# Altium footprint library Connectors.PcbLib: 51 footprints (part 2 of 4)
Each footprint in its own frame and in the unit in brackets; x right, y up, seen from the top. Pads: shape width x height; smd on the part's side, far side on the other; paste and mask are expansions set on the pad; w line width, h text height; cw(c..) or ccw(c..) is an arc to the next point about the centre after c.
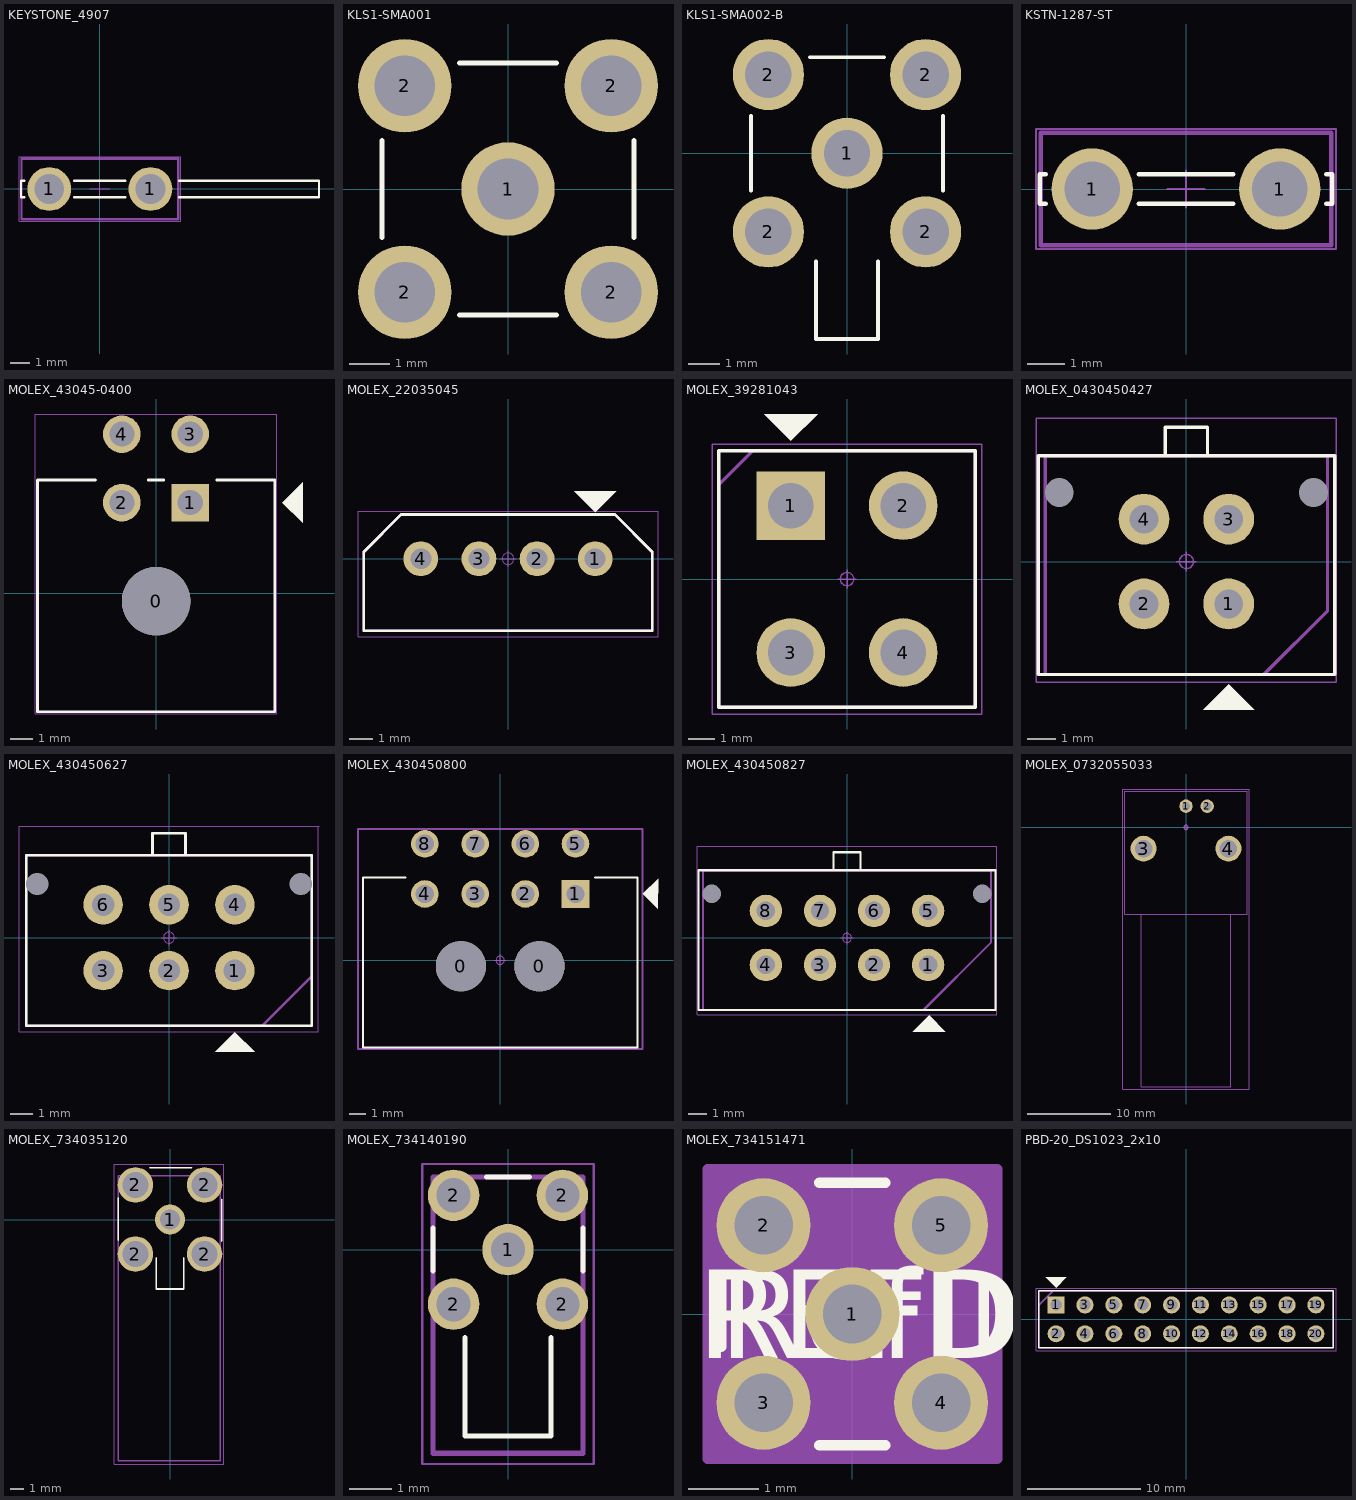
[diagram p1: the footprints below, top view; thin cyan lines are the x and y axes]

## KEYSTONE_4907 [mm] "0.187\" (4.75mm) Quick Connect Male - Solder Connector Non-Insulated"
pads (2):
  round 2.2 hole 1.5: 1(-2.54,0) 1(2.54,0)
Top Overlay:
  lines w0.12: -3.801,-0.405 -3.96,-0.405 -3.96,0.405 -3.801,0.405 ; -1.279,-0.405 1.279,-0.405 ; -1.279,0.405 1.279,0.405 ; 3.971,-0.405 10.841,-0.405 11,-0.405 11,0.405 10.841,0.405 3.971,0.405
Mechanical 11 (Mech11):
  lines w0.12: -3.937,-1.524 3.937,-1.524 3.937,1.524 -3.937,1.524 -3.937,-1.524
  text ".Designator" at -6.759,-0.678 h3
Mechanical 15 (Mech15):
  lines w0.05: -0.5,0 0.5,0 ; 0,-0.5 0,0.5 ; -4.06,-1.625 4.06,-1.625 4.06,1.625 -4.06,1.625 -4.06,-1.625
3D body "keystone-PN4907.STEP": height 8.95, standoff -3.5, extent -3.187,-0.4 11.037,0.413

## KLS1-SMA001 [mm] "SMA Vertical PCB"
pads (5):
  round 2.3 hole 1.5: 1(0,0) 2(-2.54,-2.54) 2(-2.54,2.54) 2(2.54,-2.54) 2(2.54,2.54)
Top Overlay:
  lines w0.12: -3.1,-1.2 -3.1,1.2 ; -1.2,-3.1 1.2,-3.1 ; -1.2,3.1 1.2,3.1 ; 3.1,-1.2 3.1,1.2
3D body "KLS1-SMA.step": height 9.98, standoff -3.52, extent -3.12,-3.12 3.121,3.12

## KLS1-SMA002-B [mm] "SMA right angle PCB"
pads (5):
  round 2.3 hole 1.5: 1(0,0) 2(-2.54,-2.54) 2(-2.54,2.54) 2(2.54,-2.54) 2(2.54,2.54)
Top Overlay:
  lines w0.12: -3.1,-1.2 -3.1,1.2 ; -1.2,3.1 1.2,3.1 ; -1,-3.5 -1,-6 1,-6 1,-3.5 ; 3.1,-1.2 3.1,1.2
3D body "731000114.stp": height 9.67, standoff -3.83, extent -3.175,-11.625 3.175,3.175

## KSTN-1287-ST [mm] "FIT, 2-Leads, Pitch 5.08mm, Male"
height 10.21
pads (2):
  round 2.2 hole 1.5: 1(-2.54,0) 1(2.54,0)
Top Overlay:
  lines w0.12: -3.801,-0.405 -3.96,-0.405 -3.96,0.405 -3.801,0.405 ; -1.279,-0.405 1.279,-0.405 ; -1.279,0.405 1.279,0.405 ; 3.801,-0.405 3.96,-0.405 3.96,0.405 3.801,0.405
Mechanical 11 (Mech11):
  lines w0.12: -3.937,-1.524 -3.937,1.524 3.937,1.524 3.937,-1.524 -3.937,-1.524
  text ".Designator" at -6.759,-0.678 h3
Mechanical 15 (Mech15):
  lines w0.05: -0.5,0 0.5,0 ; 0,-0.5 0,0.5 ; -4.06,-1.625 -4.06,1.625 4.06,1.625 4.06,-1.625 -4.06,-1.625
3D body "keystone-PN1287-ST.STEP": height 10.22, standoff -3.8, extent -3.962,-1.524 3.962,1.524

## MOLEX_43045-0400 [mm]
pads (5):
  round 3 hole 3 unplated paste-2539.97 mask+0: 0(0,-0.355)
  rect 1.65x1.65 hole 1.1 paste-2539.97 mask+0: 1(1.5,3.965)
  round 1.65 hole 1.1 paste-2539.97 mask+0: 2(-1.5,3.965) 3(1.5,6.965) 4(-1.5,6.965)
Top Overlay:
  region: 5.537,3.969 6.434,3.072 6.434,4.866
  lines w0.12: -2.66,4.955 -5.2,4.955 -5.2,-5.205 5.2,-5.205 5.2,4.955 2.66,4.955 ; -0.34,4.955 0.34,4.955
Mechanical 1:
  circle w0.05: c0,0 r0.25
  lines w0.05: -0.35,0 0.35,0 ; 0,-0.35 0,0.35 ; -5.3,-5.305 -5.3,7.85 5.3,7.85 5.3,-5.305 -5.3,-5.305
Bottom Assembly:
  lines w0.05: -5.3,-5.305 5.3,-5.305 5.3,7.85 -5.3,7.85 -5.3,-5.305
  text ".Designator" at -3.379,5.376 h1.5
3D body "430450400.stp": height 8.77, standoff -3.18, extent -5.075,-4.955 5.075,7.285

## MOLEX_22035045 [mm]
pads (4):
  round 1.5 hole 0.9: 1(3.75,0) 2(1.25,0) 3(-1.25,0) 4(-3.75,0)
Top Overlay:
  region: 3.75,2 4.647,2.897 2.853,2.897
  lines w0.12: -6.2,-3.1 -6.2,0.3 -4.6,1.9 4.6,1.9 6.2,0.3 6.2,-3.1 -6.2,-3.1
Mechanical 11 (Mech11):
  lines w0.12: -6.2,-3.1 6.2,-3.1 6.2,0.3 4.6,1.9 -4.6,1.9 -6.2,0.3 -6.2,-3.1
  text ".Designator" at -6.759,-0.678 h3
Mechanical 15 (Mech15):
  circle w0.05: c0,0 r0.25
  lines w0.05: -0.35,0 0.35,0 ; 0,-0.35 0,0.35 ; -6.45,-3.35 -6.45,2.05 6.45,2.05 6.45,-3.35 -6.45,-3.35
3D body "022035045.stp": height 5.95, standoff -3.45, extent -6.2,-3.095 6.2,1.805

## MOLEX_39281043 [mm] "Mini-Fit Jr. Vertical Header, 4.20mm Pitch, Dual Row, 4 Circuits, without Snap-in Plastic Peg PCB Lock, Tin, Natural"
pads (4):
  rect 2.57x2.57 hole 1.71 paste-2539.97: 1(-2.1,2.75)
  round 2.57 hole 1.71 paste-2539.97: 2(2.1,2.75) 3(-2.1,-2.75) 4(2.1,-2.75)
Top Overlay:
  region: -2.1,5.179 -3.1,6.179 -1.1,6.179
  lines w0.12: -4.8,-4.8 -4.8,4.8 4.8,4.8 4.8,-4.8 -4.8,-4.8
Mechanical 11 (Mech11):
  lines w0.12: -4.8,-4.8 -4.8,3.53 -3.53,4.8 4.8,4.8 4.8,-4.8 -4.8,-4.8
  text ".Designator" at -4.506,-0.452 h2
Mechanical 15:
  lines w0.025: -4.8,-4.8 -4.8,4.8 4.8,4.8 4.8,-4.8 -4.8,-4.8
Mechanical 15 (Mech15):
  circle w0.05: c0,0 r0.25
  lines w0.05: -0.35,0 0.35,0 ; 0,-0.35 0,0.35 ; -5.05,-5.05 -5.05,5.05 5.05,5.05 5.05,-5.05 -5.05,-5.05
3D body "039281043.stp": height 12.8, standoff -3.5, extent -5.2,-4.8 5.2,6.2

## MOLEX_0430450427 [mm] "Connector Header Through Hole 4 position 0.118\" (3.00mm)"
pads (6):
  round 0 hole 1.02 unplated: 0(4.5,2.44) 1(-4.5,2.44)
  round 1.8 hole 1.02: 1(1.5,-1.5) 2(-1.5,-1.5) 3(1.5,1.5) 4(-1.5,1.5)
Top Overlay:
  region: 1.5,-4.353 0.603,-5.25 2.397,-5.25
  lines w0.12: -0.75,3.75 -0.75,4.75 0.75,4.75 0.75,3.75 ; -5.25,-4 -5.25,3.75 5.25,3.75 5.25,-4 -5.25,-4
Mechanical 11 (Mech11):
  lines w0.12: -5,-4 -5,3.75 0,3.75 5,3.75 5,-1.75 2.75,-4 -5,-4
  text ".Designator" at -6.759,-0.678 h3
Mechanical 15 (Mech15):
  circle w0.05: c0,0 r0.25
  lines w0.05: -0.35,0 0.35,0 ; 0,-0.35 0,0.35 ; -5.325,-4.275 5.3,-4.275 5.3,5.075 -5.325,5.075 -5.325,-4.275
3D body "430450427.stp": height 9.95, standoff -3.14, extent -5.075,-3.94 5.075,4.83

## MOLEX_430450627 [mm] "CONN HEADER VERT 6POS 3MM"
pads (8):
  round 0 hole 1.02 unplated: 0(6,2.44) 1(-6,2.44)
  round 1.8 hole 1.02: 1(3,-1.5) 2(0,-1.5) 3(-3,-1.5) 4(3,1.5) 5(0,1.5) 6(-3,1.5)
Top Overlay:
  region: 3,-4.3 2.103,-5.197 3.897,-5.197
  lines w0.12: -0.75,3.75 -0.75,4.75 0.75,4.75 0.75,3.75 ; -6.5,-4 6.5,-4 6.5,3.75 -6.5,3.75 -6.5,-4
Mechanical 11 (Mech11):
  lines w0.12: -6.5,-4 -6.5,3.75 0,3.75 6.5,3.75 6.5,-1.75 4.25,-4 -6.5,-4
  text ".Designator" at -6.759,-0.678 h3
Mechanical 15 (Mech15):
  circle w0.05: c0,0 r0.25
  lines w0.05: -0.35,0 0.35,0 ; 0,-0.35 0,0.35 ; 6.825,5.075 6.8,5.075 ; 6.8,5.075 6.8,-4.275 -6.825,-4.275 -6.825,5.075 6.8,5.075
3D body "430450627.stp": height 9.95, standoff -3.14, extent -6.575,-3.94 6.575,4.83

## MOLEX_430450800 [mm] "Connector Header Through Hole, Right Angle 8 position 0.118\" (3.00mm)"
pads (10):
  round 3 hole 3 unplated paste-2539.97 mask+0: 0(-2.35,-0.355) 0(2.35,-0.355)
  rect 1.65x1.65 hole 1.1 paste-2539.97 mask+0: 1(4.5,3.965)
  round 1.65 hole 1.1 paste-2539.97 mask+0: 2(1.5,3.965) 3(-1.5,3.965) 4(-4.5,3.965) 5(4.5,6.965) 6(1.5,6.965) 7(-1.5,6.965) 8(-4.5,6.965)
Top Overlay:
  region: 8.537,3.969 9.434,3.072 9.434,4.866
  lines w0.12: -5.66,4.955 -8.2,4.955 -8.2,-5.205 8.2,-5.205 8.2,4.955 5.66,4.955
Mechanical 11 (Mech11):
  lines w0.12: -8.5,-5.305 8.5,-5.305 8.5,7.85 -8.5,7.85 -8.5,-5.305
  text ".Designator" at -6.759,-0.678 h3
Mechanical 15 (Mech15):
  circle w0.05: c0,0 r0.25
  lines w0.05: -0.35,0 0.35,0 ; 0,-0.35 0,0.35 ; -8.5,-5.305 -8.5,7.85 8.5,7.85 8.5,-5.305 -8.5,-5.305
3D body "430450800.stp": height 8.77, standoff -3.18, extent -8.075,-4.955 8.075,7.285

## MOLEX_430450827 [mm] "Connector Header Through Hole 8 position 0.118\" (3.00mm)"
pads (10):
  round 0 hole 1.02 unplated: 0(7.5,2.44) 1(-7.5,2.44)
  round 1.8 hole 1.02: 1(4.5,-1.5) 2(1.5,-1.5) 3(-1.5,-1.5) 4(-4.5,-1.5) 5(4.5,1.5) 6(1.5,1.5) 7(-1.5,1.5) 8(-4.5,1.5)
Top Overlay:
  region: 4.552,-4.302 3.655,-5.198 5.449,-5.198
  lines w0.12: -0.75,3.75 -0.75,4.75 0.75,4.75 0.75,3.75 ; -8.25,-4 -8.25,3.75 8.25,3.75 8.25,-4 -8.25,-4
Mechanical 11 (Mech11):
  lines w0.12: -8,-4 -8,3.75 0,3.75 8,3.75 8,-0.25 4.25,-4 -8,-4
  text ".Designator" at -6.759,-0.678 h3
Mechanical 15 (Mech15):
  circle w0.05: c0,0 r0.25
  lines w0.05: -0.35,0 0.35,0 ; 0,-0.35 0,0.35 ; 6.8,5.075 -8.325,5.075 -8.325,-4.275 8.325,-4.275 8.325,5.075 6.825,5.075
3D body "430450827.stp": height 9.95, standoff -3.14, extent -8.075,-3.94 8.075,4.83

## MOLEX_0732055033 [mm] "TNC PCB right angle female"
height 15.42
pads (4):
  round 1.6 hole 1: 1(0,2.54) 2(2.54,2.54)
  round 3.1 hole 2.1: 3(-5.08,-2.54) 4(5.08,-2.54)
Mechanical 11 (Mech11):
  lines w0.12: -5.33,-10.375 -5.33,-31.08 5.33,-31.08 5.33,-10.375 ; -7.33,-10.375 7.33,-10.375 7.33,4.351 -7.33,4.351 -7.33,-10.375
  text ".Designator" at -6.763,-1.244 h3
Mechanical 15 (Mech15):
  circle w0.05: c0,0 r0.25
  lines w0.05: -0.35,0 0.35,0 ; 0,-0.35 0,0.35 ; -7.575,-31.325 -7.575,4.6 -7.325,4.6 7.575,4.6 7.575,4.35 7.575,-31.325 -7.575,-31.325
3D body "TNC.stp": height 15.71, standoff -3.82, extent -7.33,-31.08 7.33,4.35

## MOLEX_734035120 [mm] "FAKRA PCB"
pads (5):
  round 2.2 hole 1.5: 1(0,0)
  round 2.6 hole 1.9: 2(-2.54,-2.54) 2(-2.54,2.54) 2(2.54,-2.54) 2(2.54,2.54)
Top Overlay:
  lines w0.12: -3.8,-1.5 -3.8,1.6 ; -1.5,3.8 1.6,3.8 ; -1,-2.8 -1,-5.1 1,-5.1 1,-2.8 ; 3.8,-1.6 3.8,1.5
Mechanical 11 (Mech11):
  lines w0.12: -3.8,-17.7 -3.8,-16.1 -3.8,3.2 0.8,3.2 3.7,3.2 3.7,-4.6 3.7,-17.7 3,-17.7 -3.8,-17.7
  text ".Designator" at -2.259,-0.81 h1
Mechanical 15 (Mech15):
  lines w0.05: -1,0 1,0 ; 0,-1 0,0 0,1 ; -4.1,-17.95 -4.1,2.5 -4.1,4.075 -2.525,4.075 3.95,4.075 3.95,-17.95 -4.1,-17.95
3D body "734035112.stp": height 10.55, standoff -2.79, extent -3.75,-17.665 3.75,3.21

## MOLEX_734140190 [mm]
pads (5):
  round 1.2 hole 0.8: 1(0,0) 2(-1.27,-1.27) 2(-1.27,1.27) 2(1.27,-1.27) 2(1.27,1.27)
Top Overlay:
  lines w0.12: -1.75,-0.5 -1.75,0.5 ; -1,-2.05 -1,-4.35 1,-4.35 1,-2.05 ; -0.5,1.7 0.5,1.7 ; 1.75,-0.5 1.75,0.5
Mechanical 11 (Mech11):
  lines w0.12: -1.75,-4.75 1.75,-4.75 1.75,1.694 -1.75,1.694 -1.75,-4.75
  text ".Designator" at -2.259,-0.785 h0.6
Mechanical 15 (Mech15):
  circle w0.05: c0,0 r0.25
  lines w0.05: -0.35,0 0.35,0 ; 0,-0.35 0,0.35 ; -2,-5 2,-5 2,2 -2,2 -2,-5
3D body "734140190.stp": height 3.75, standoff -2.2, extent -1.75,-4.75 1.75,1.741

## MOLEX_734151471 [mil]
pads (5):
  round 53 / inner round 60 / far side round 53 hole 33 paste-26.5 mask+0: 1(0,0) 2(-50,50) 3(-50,-50) 4(50,-50) 5(50,50)
Top Overlay:
  lines w6: -74,-18.5 -74,18.5 ; -18.5,-74 18.5,-74 ; -18.5,74 18.5,74 ; 74,-18.5 74,18.5
  text "REFDES" at -87.5,-25 h50
  text "RefDes" at -75,-25 h50
Mechanical 13:
  lines w1: -69,-69 -69,69 69,69 69,-69 -69,-69
  text "RefDes2" at -87.5,-25 h50
Mechanical 15 (Mech15):
  region: 81.5,-81.5 -81.5,-81.5 -81.5,81.5 81.5,81.5
  lines w6: -81.5,-81.5 81.5,-81.5 81.5,81.5 -81.5,81.5 -81.5,-81.5

## PBD-20_DS1023_2x10 [mm] "Header, Vertical Receptacle, 2.54 mm pitch; 0.80 mm lead width, 20 pins, 2 rows, 10 pins per row, 25.90 mm L X 5.00 mm W X 8.50 mm H body"
pads (20):
  rect 1.5x1.5 hole 1 paste-2539.97: 1(-11.43,1.27)
  round 1.5 hole 1 paste-2539.97: 2(-11.43,-1.27) 3(-8.89,1.27) 4(-8.89,-1.27) 5(-6.35,1.27) 6(-6.35,-1.27) 7(-3.81,1.27) 8(-3.81,-1.27) 9(-1.27,1.27) 10(-1.27,-1.27) 11(1.27,1.27) 12(1.27,-1.27) 13(3.81,1.27) 14(3.81,-1.27) 15(6.35,1.27) 16(6.35,-1.27) 17(8.89,1.27) 18(8.89,-1.27) 19(11.43,1.27) 20(11.43,-1.27)
Top Overlay:
  region: -11.43,2.794 -10.533,3.691 -12.327,3.691
  lines w0.12: -12.95,-2.5 -12.95,2.5 12.95,2.5 12.95,-2.5 -12.95,-2.5
Mechanical 11 (Mech11):
  lines w0.12: -12.95,-2.5 -12.95,1.23 -11.68,2.5 12.95,2.5 12.95,-2.5 -12.95,-2.5
  text ".Designator" at -11.43,1.27 h1
Mechanical 15:
  lines w0.025: -12.95,-2.5 -12.95,2.5 12.95,2.5 12.95,-2.5 -12.95,-2.5
Mechanical 15 (Mech15):
  circle w0.05: c-11.43,1.27 r0.25
  lines w0.05: -11.78,1.27 -11.08,1.27 ; -11.43,0.92 -11.43,1.62 ; -13.2,-2.75 -13.2,2.75 13.2,2.75 13.2,-2.75 -13.2,-2.75
3D body "PBD-20_DS1023_2x10.STEP": height 8.5, standoff -2, extent -12.95,-2.5 12.95,2.5